# Altium integrated library Linear Technology Power Management System Supervisor, Monitor and Control.IntLib: 1611 symbols (part 24 of 100)
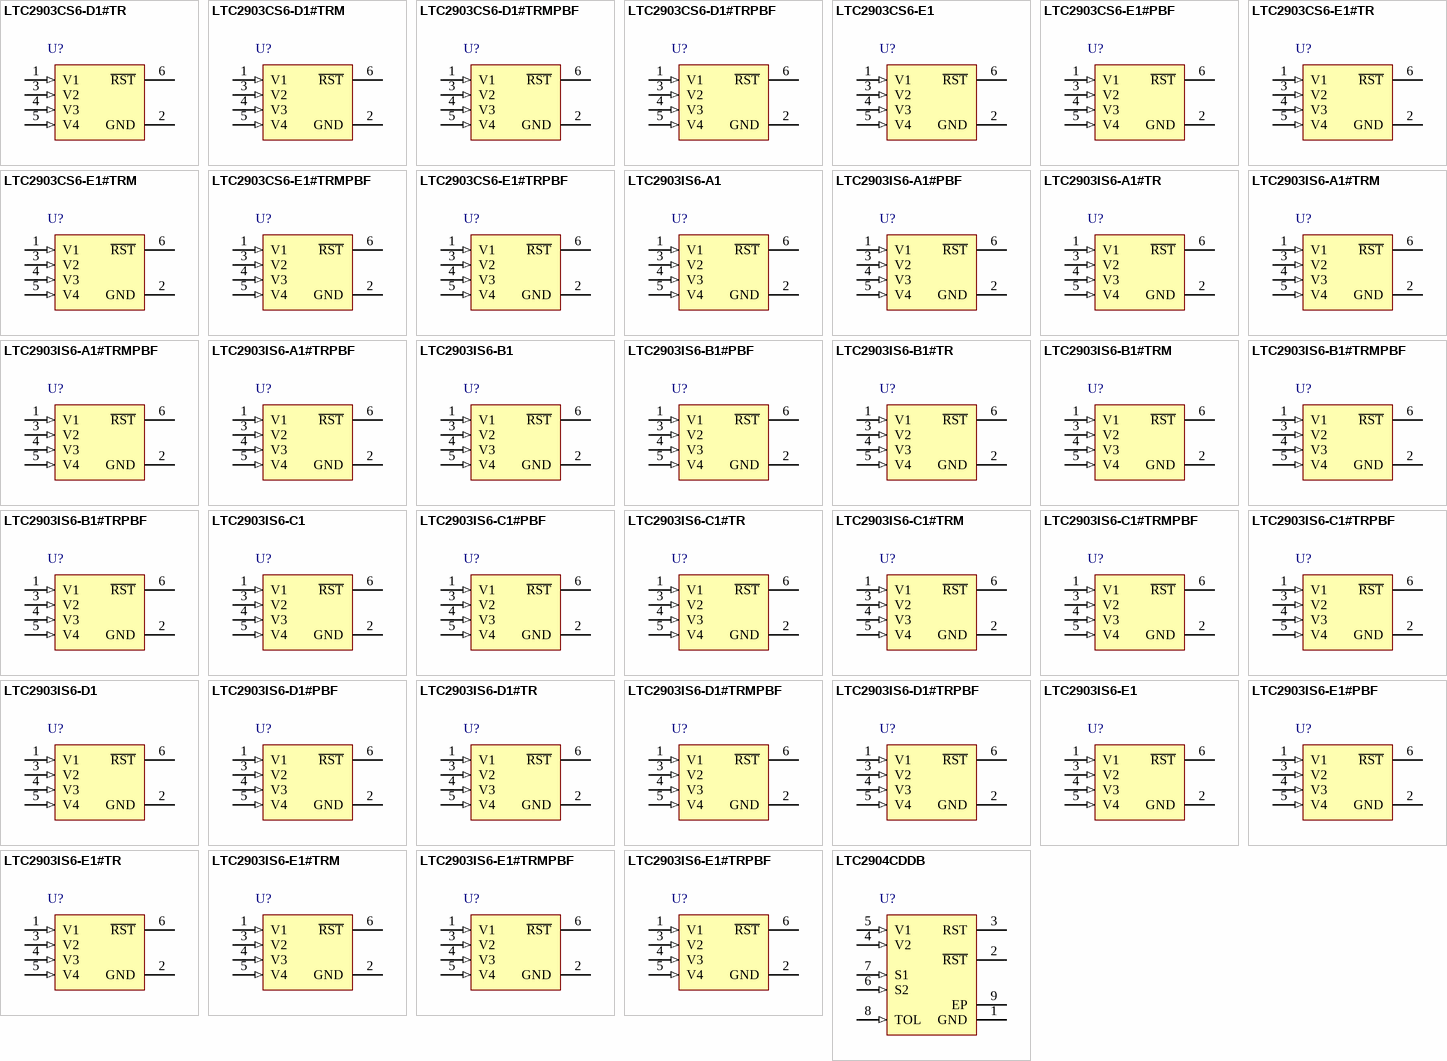
[diagram p68: symbols LTC2903CS6-D1#TR to LTC2904CDDB]

## LTC2903IS6-E1#TR
designator U?
Precision Quad Supply Monitor, 6-pin SOT23 (S6-6), -40 to 85 degC, Tape and Reel; Manufacturer: Linear Technology; PartNumber: LTC2903IS6-E1#TR; Number of Supplies(#): 4; PackageVersion: Jun-10; PackageReference: S6-6; PackageDescription: 6-Pin Plastic TSOT-23, Body 2.9 x 1.63 mm, Pitch 0.95 mm; Packing: Tape and Reel; RoHS: FALSE; Mounting Technology: Surface Mount; Code_JEDEC: MO-193; ComponentLink1Description: Manufacturer URL; ComponentLink1URL: http://www.linear.com/; ComponentLink2Description: Datasheet; ComponentLink2URL: http://cds.linear.com/docs/en/datasheet/29031fa.pdf; ComponentLink3Description: Package Specification; ComponentLink3URL: http://cds.linear.com/docs/en/packaging/SOT_6_05-08-1636.pdf
footprint LT-S6-6-TSOT-23_N (SOT23, 6-Leads, Body 2.9x1.75mm, Pitch 0.95mm, IPC Medium Density)
footprint LT-S6-6-TSOT-23_L (SOT23, 6-Leads, Body 2.9x1.75mm, Pitch 0.95mm, IPC High Density)
footprint LT-S6-6-TSOT-23_M (SOT23, 6-Leads, Body 2.9x1.75mm, Pitch 0.95mm, IPC Low Density)
pins: 1 V1 (in) "Voltage Input 1. Internal VCC is generated from the greater voltage on the V1 and V2 inputs. VCC = V1 for options D1 and E1. Bypass this pin to ground with a 0.1uF (or greater) capacitor.", 2 GND (power) "Ground.", 3 V2 (in) "Voltage Input 2. Internal VCC is generated from the greater voltage on the V1 and V2 inputs. VCC = V1 for options D1 and E1. For option A1, B1, C1 bypass this pin to ground with a 0.1uF (or greater) capacitor. V2 is an (See Datasheet)", 4 V3 (in) "Voltage Input 3. This input assists the R\S\T\ pulldown circuitry below 1V (for options A1, B1 and C1 only). V3 is an adjustable input for options D1 and E1. See Table 1b for recommended ADJ resistor values.", 5 V4 (in) "Voltage Input 4. Table 1 lists the recommended ADJ resistor values for options A1, B1 and C1. See Table 1b for options D1 and E1.", 6 ~{RST} (oc) "Reset Logic Output. Pulls low when any voltage input is below reset threshold and held low for 200ms after all voltage inputs exceed threshold. The pin contains a weak pull-up to V2 (V1 for options D1 and E1). Use an (See Datasheet)"

## LTC2903IS6-E1#TRM
designator U?
Precision Quad Supply Monitor, 6-pin SOT23 (S6-6), -40 to 85 degC, Mini Tape and Reel; Manufacturer: Linear Technology; PartNumber: LTC2903IS6-E1#TRM; Number of Supplies(#): 4; PackageVersion: Jun-10; PackageReference: S6-6; PackageDescription: 6-Pin Plastic TSOT-23, Body 2.9 x 1.63 mm, Pitch 0.95 mm; Packing: Mini Tape and Reel; RoHS: TRUE; Mounting Technology: Surface Mount; Code_JEDEC: MO-193; ComponentLink1Description: Manufacturer URL; ComponentLink1URL: http://www.linear.com/; ComponentLink2Description: Datasheet; ComponentLink2URL: http://cds.linear.com/docs/en/datasheet/29031fa.pdf; ComponentLink3Description: Package Specification; ComponentLink3URL: http://cds.linear.com/docs/en/packaging/SOT_6_05-08-1636.pdf
footprint LT-S6-6-TSOT-23_N (SOT23, 6-Leads, Body 2.9x1.75mm, Pitch 0.95mm, IPC Medium Density)
footprint LT-S6-6-TSOT-23_L (SOT23, 6-Leads, Body 2.9x1.75mm, Pitch 0.95mm, IPC High Density)
footprint LT-S6-6-TSOT-23_M (SOT23, 6-Leads, Body 2.9x1.75mm, Pitch 0.95mm, IPC Low Density)
pins: 1 V1 (in) "Voltage Input 1. Internal VCC is generated from the greater voltage on the V1 and V2 inputs. VCC = V1 for options D1 and E1. Bypass this pin to ground with a 0.1uF (or greater) capacitor.", 2 GND (power) "Ground.", 3 V2 (in) "Voltage Input 2. Internal VCC is generated from the greater voltage on the V1 and V2 inputs. VCC = V1 for options D1 and E1. For option A1, B1, C1 bypass this pin to ground with a 0.1uF (or greater) capacitor. V2 is an (See Datasheet)", 4 V3 (in) "Voltage Input 3. This input assists the R\S\T\ pulldown circuitry below 1V (for options A1, B1 and C1 only). V3 is an adjustable input for options D1 and E1. See Table 1b for recommended ADJ resistor values.", 5 V4 (in) "Voltage Input 4. Table 1 lists the recommended ADJ resistor values for options A1, B1 and C1. See Table 1b for options D1 and E1.", 6 ~{RST} (oc) "Reset Logic Output. Pulls low when any voltage input is below reset threshold and held low for 200ms after all voltage inputs exceed threshold. The pin contains a weak pull-up to V2 (V1 for options D1 and E1). Use an (See Datasheet)"

## LTC2903IS6-E1#TRMPBF
designator U?
Precision Quad Supply Monitor, 6-pin SOT23 (S6-6), -40 to 85 degC, Pb-Free, Mini Tape and Reel; Manufacturer: Linear Technology; PartNumber: LTC2903IS6-E1#TRMPBF; Number of Supplies(#): 4; PackageVersion: Jun-10; PackageReference: S6-6; PackageDescription: 6-Pin Plastic TSOT-23, Body 2.9 x 1.63 mm, Pitch 0.95 mm; Supplier 1: Digi-Key; Supplier Part Number 1: LTC2903IS6-E1#TRMPBF-ND; Packing: Mini Tape and Reel; RoHS: TRUE; Mounting Technology: Surface Mount; Code_JEDEC: MO-193; ComponentLink1Description: Manufacturer URL; ComponentLink1URL: http://www.linear.com/; ComponentLink2Description: Datasheet; ComponentLink2URL: http://cds.linear.com/docs/en/datasheet/29031fa.pdf; ComponentLink3Description: Package Specification; ComponentLink3URL: http://cds.linear.com/docs/en/packaging/SOT_6_05-08-1636.pdf
footprint LT-S6-6-TSOT-23_N (SOT23, 6-Leads, Body 2.9x1.75mm, Pitch 0.95mm, IPC Medium Density)
footprint LT-S6-6-TSOT-23_L (SOT23, 6-Leads, Body 2.9x1.75mm, Pitch 0.95mm, IPC High Density)
footprint LT-S6-6-TSOT-23_M (SOT23, 6-Leads, Body 2.9x1.75mm, Pitch 0.95mm, IPC Low Density)
pins: 1 V1 (in) "Voltage Input 1. Internal VCC is generated from the greater voltage on the V1 and V2 inputs. VCC = V1 for options D1 and E1. Bypass this pin to ground with a 0.1uF (or greater) capacitor.", 2 GND (power) "Ground.", 3 V2 (in) "Voltage Input 2. Internal VCC is generated from the greater voltage on the V1 and V2 inputs. VCC = V1 for options D1 and E1. For option A1, B1, C1 bypass this pin to ground with a 0.1uF (or greater) capacitor. V2 is an (See Datasheet)", 4 V3 (in) "Voltage Input 3. This input assists the R\S\T\ pulldown circuitry below 1V (for options A1, B1 and C1 only). V3 is an adjustable input for options D1 and E1. See Table 1b for recommended ADJ resistor values.", 5 V4 (in) "Voltage Input 4. Table 1 lists the recommended ADJ resistor values for options A1, B1 and C1. See Table 1b for options D1 and E1.", 6 ~{RST} (oc) "Reset Logic Output. Pulls low when any voltage input is below reset threshold and held low for 200ms after all voltage inputs exceed threshold. The pin contains a weak pull-up to V2 (V1 for options D1 and E1). Use an (See Datasheet)"

## LTC2903IS6-E1#TRPBF
designator U?
Precision Quad Supply Monitor, 6-pin SOT23 (S6-6), -40 to 85 degC, Pb-Free, Tape and Reel; Manufacturer: Linear Technology; PartNumber: LTC2903IS6-E1#TRPBF; Number of Supplies(#): 4; PackageVersion: Jun-10; PackageReference: S6-6; PackageDescription: 6-Pin Plastic TSOT-23, Body 2.9 x 1.63 mm, Pitch 0.95 mm; Supplier 1: Digi-Key; Supplier Part Number 1: LTC2903IS6-E1#TRPBF-ND; Packing: Tape and Reel; RoHS: TRUE; Mounting Technology: Surface Mount; Code_JEDEC: MO-193; ComponentLink1Description: Manufacturer URL; ComponentLink1URL: http://www.linear.com/; ComponentLink2Description: Datasheet; ComponentLink2URL: http://cds.linear.com/docs/en/datasheet/29031fa.pdf; ComponentLink3Description: Package Specification; ComponentLink3URL: http://cds.linear.com/docs/en/packaging/SOT_6_05-08-1636.pdf
footprint LT-S6-6-TSOT-23_N (SOT23, 6-Leads, Body 2.9x1.75mm, Pitch 0.95mm, IPC Medium Density)
footprint LT-S6-6-TSOT-23_L (SOT23, 6-Leads, Body 2.9x1.75mm, Pitch 0.95mm, IPC High Density)
footprint LT-S6-6-TSOT-23_M (SOT23, 6-Leads, Body 2.9x1.75mm, Pitch 0.95mm, IPC Low Density)
pins: 1 V1 (in) "Voltage Input 1. Internal VCC is generated from the greater voltage on the V1 and V2 inputs. VCC = V1 for options D1 and E1. Bypass this pin to ground with a 0.1uF (or greater) capacitor.", 2 GND (power) "Ground.", 3 V2 (in) "Voltage Input 2. Internal VCC is generated from the greater voltage on the V1 and V2 inputs. VCC = V1 for options D1 and E1. For option A1, B1, C1 bypass this pin to ground with a 0.1uF (or greater) capacitor. V2 is an (See Datasheet)", 4 V3 (in) "Voltage Input 3. This input assists the R\S\T\ pulldown circuitry below 1V (for options A1, B1 and C1 only). V3 is an adjustable input for options D1 and E1. See Table 1b for recommended ADJ resistor values.", 5 V4 (in) "Voltage Input 4. Table 1 lists the recommended ADJ resistor values for options A1, B1 and C1. See Table 1b for options D1 and E1.", 6 ~{RST} (oc) "Reset Logic Output. Pulls low when any voltage input is below reset threshold and held low for 200ms after all voltage inputs exceed threshold. The pin contains a weak pull-up to V2 (V1 for options D1 and E1). Use an (See Datasheet)"

## LTC2904CDDB
designator U?
Precision Dual Supply Monitor with Pin-Selectable Threshold, 8-pin SON (DDB-8), 0 to 70 degC; Manufacturer: Linear Technology; PartNumber: LTC2904CDDB; Number of Supplies(#): 2; DatasheetVersion: Rev. D; PackageVersion: Rev. B, 06/2010; PackageReference: DDB-8; PackageDescription: 8-Pin Plastic DFN, Body 3 x 2 mm, Pitch 0.5 mm; RoHS: FALSE; Mounting Technology: Surface Mount; Code_JEDEC: MO-229; ComponentLink1Description: Manufacturer URL; ComponentLink1URL: http://www.linear.com/; ComponentLink2Description: Datasheet; ComponentLink2URL: http://cds.linear.com/docs/en/datasheet/29045fd.pdf; ComponentLink3Description: Package Specification; ComponentLink3URL: http://cds.linear.com/docs/en/packaging/DFN_8_05-08-1702.pdf
footprint LT-DDB-8_V (SON, 8-Leads, Body 3x2mm, Pitch 0.5mm, Thermal Pad 2.2x0.61mm)
pins: 1 GND (power) "Ground.", 2 ~{RST} (oc) "Inverted Reset Logic Output. Pulls low when either V1 or VADJ is below the reset threshold and holds low for programmed delay time after all voltage inputs are above threshold. This pin has a weak pull up to VMAX and may be (See Datasheet)", 3 RST (oc) "(LTC2904 Only) Reset Logic Output. When all voltage inputs are above the reset threshold for at least the programmed delay time, this pin pulls low. This pin has a weak pull up to VMAX and may be pulled above VMAX using an (See Datasheet)", 4 V2 (in) "Voltage Input 2. Input for V2 monitor. Select from 3.3V, 2.5V, 1.8V, 1.5V, 1.2V or 1.0V. Refer to Table 1 for details. The greater of V1, V2 is also the internal supply voltage, VCC. Bypass this pin to ground with a 0.1uF (See Datasheet)", 5 V1 (in) "Voltage Input 1. Select from 5V, 3.3V or 2.5V. Refer to Table 1 for details. The greater of (V1, VCC) is also the internal VCC (VMAX). Bypass this pin to ground with a 0.1uF (or greater) capacitor.", 6 S2 (in) "The Second Voltage Threshold Select Three-State Input. Connect to V1, GND or leave unconnected in open state (See Table 1).", 7 S1 (in) "The Voltage Threshold Select Three- State Input. Connect to V1, GND or leave unconnected in open state to select one of three possible input threshold levels (refer to Table 1).", 8 TOL (in) "Three-State Input for Supply Tolerance Selection (5%, 7.5% or 10%). Refer to Applications Information for tolerance selection chart (Table 3).", 9 EP (power) "Ground."

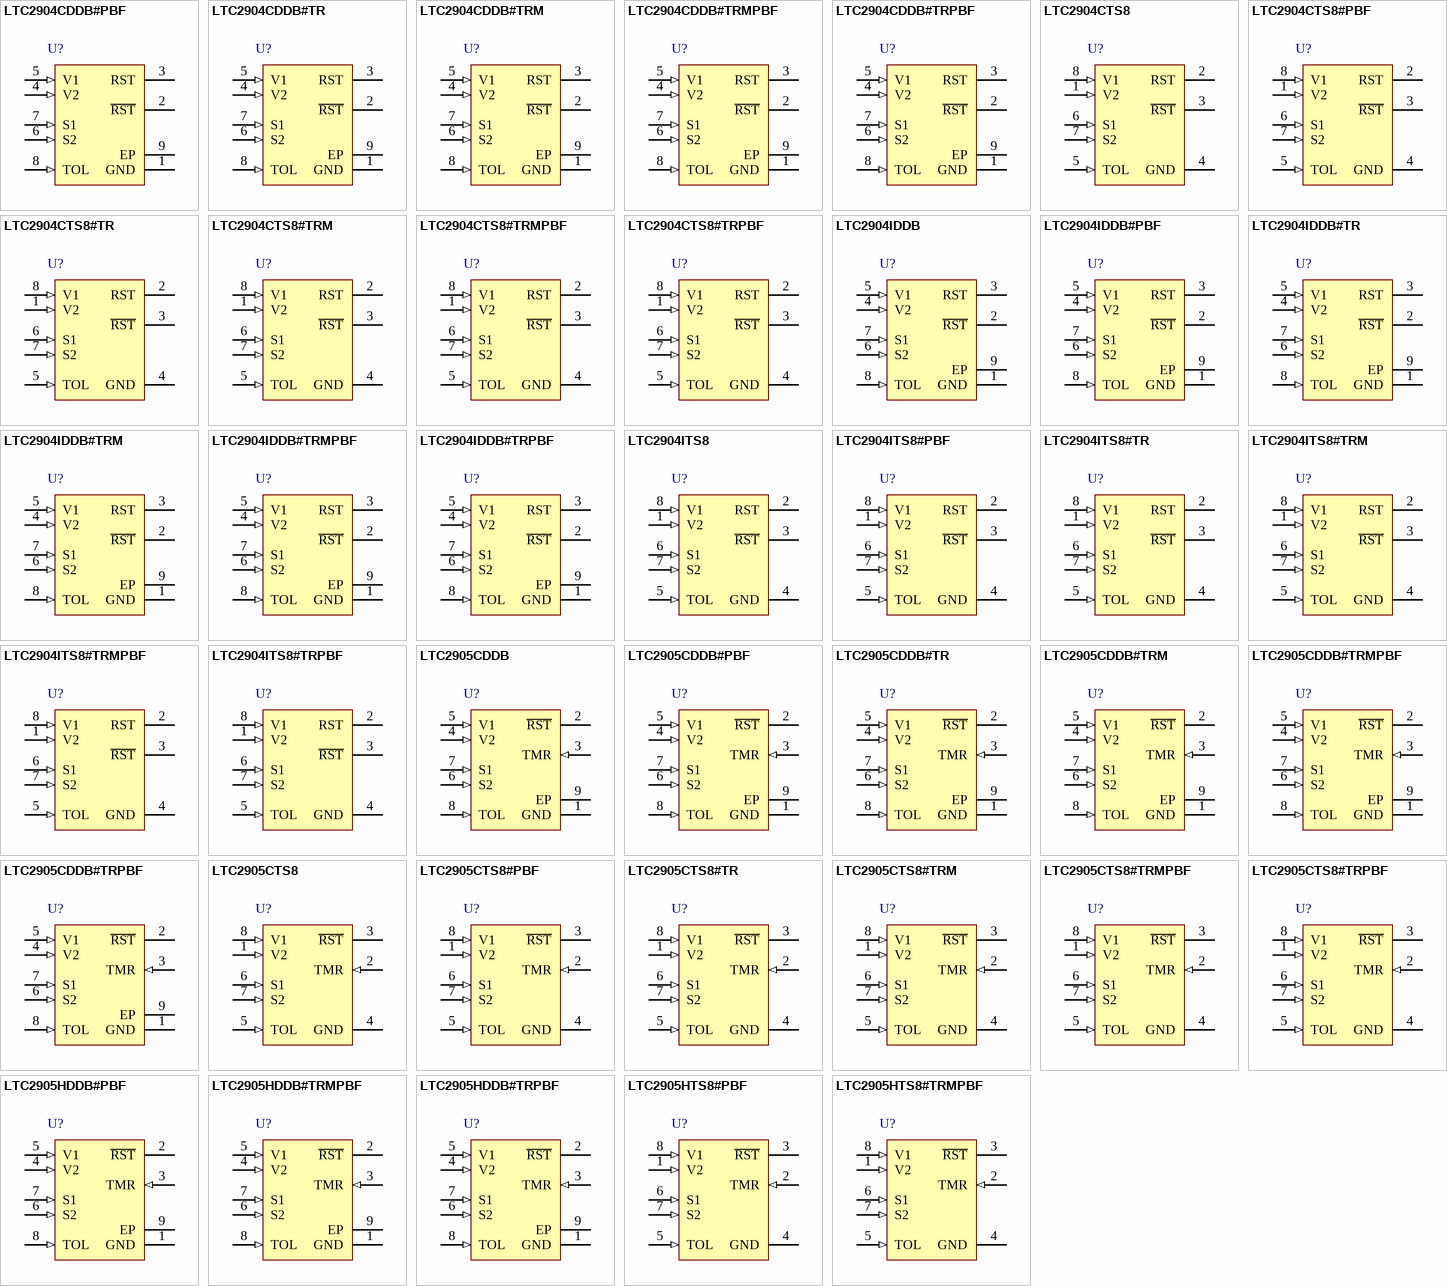
[diagram p12: symbols LTC2904CDDB#PBF to LTC2905HTS8#TRMPBF]

## LTC2904CDDB#PBF
designator U?
Precision Dual Supply Monitor with Pin-Selectable Threshold, 8-pin SON (DDB-8), 0 to 70 degC, Pb-Free; Manufacturer: Linear Technology; PartNumber: LTC2904CDDB#PBF; Number of Supplies(#): 2; DatasheetVersion: Rev. D; PackageVersion: Rev. B, 06/2010; PackageReference: DDB-8; PackageDescription: 8-Pin Plastic DFN, Body 3 x 2 mm, Pitch 0.5 mm; RoHS: TRUE; Mounting Technology: Surface Mount; Code_JEDEC: MO-229; ComponentLink1Description: Manufacturer URL; ComponentLink1URL: http://www.linear.com/; ComponentLink2Description: Datasheet; ComponentLink2URL: http://cds.linear.com/docs/en/datasheet/29045fd.pdf; ComponentLink3Description: Package Specification; ComponentLink3URL: http://cds.linear.com/docs/en/packaging/DFN_8_05-08-1702.pdf
footprint LT-DDB-8_V (SON, 8-Leads, Body 3x2mm, Pitch 0.5mm, Thermal Pad 2.2x0.61mm)
pins: 1 GND (power) "Ground.", 2 ~{RST} (oc) "Inverted Reset Logic Output. Pulls low when either V1 or VADJ is below the reset threshold and holds low for programmed delay time after all voltage inputs are above threshold. This pin has a weak pull up to VMAX and may be (See Datasheet)", 3 RST (oc) "(LTC2904 Only) Reset Logic Output. When all voltage inputs are above the reset threshold for at least the programmed delay time, this pin pulls low. This pin has a weak pull up to VMAX and may be pulled above VMAX using an (See Datasheet)", 4 V2 (in) "Voltage Input 2. Input for V2 monitor. Select from 3.3V, 2.5V, 1.8V, 1.5V, 1.2V or 1.0V. Refer to Table 1 for details. The greater of V1, V2 is also the internal supply voltage, VCC. Bypass this pin to ground with a 0.1uF (See Datasheet)", 5 V1 (in) "Voltage Input 1. Select from 5V, 3.3V or 2.5V. Refer to Table 1 for details. The greater of (V1, VCC) is also the internal VCC (VMAX). Bypass this pin to ground with a 0.1uF (or greater) capacitor.", 6 S2 (in) "The Second Voltage Threshold Select Three-State Input. Connect to V1, GND or leave unconnected in open state (See Table 1).", 7 S1 (in) "The Voltage Threshold Select Three- State Input. Connect to V1, GND or leave unconnected in open state to select one of three possible input threshold levels (refer to Table 1).", 8 TOL (in) "Three-State Input for Supply Tolerance Selection (5%, 7.5% or 10%). Refer to Applications Information for tolerance selection chart (Table 3).", 9 EP (power) "Ground."

## LTC2904CDDB#TR
designator U?
Precision Dual Supply Monitor with Pin-Selectable Threshold, 8-pin SON (DDB-8), 0 to 70 degC, Tape and Reel; Manufacturer: Linear Technology; PartNumber: LTC2904CDDB#TR; Number of Supplies(#): 2; DatasheetVersion: Rev. D; PackageVersion: Rev. B, 06/2010; PackageReference: DDB-8; PackageDescription: 8-Pin Plastic DFN, Body 3 x 2 mm, Pitch 0.5 mm; Supplier 1: Digi-Key; Supplier Part Number 1: LTC2904CDDB#TR-ND; Packing: Tape and Reel; RoHS: FALSE; Mounting Technology: Surface Mount; Code_JEDEC: MO-229; ComponentLink1Description: Manufacturer URL; ComponentLink1URL: http://www.linear.com/; ComponentLink2Description: Datasheet; ComponentLink2URL: http://cds.linear.com/docs/en/datasheet/29045fd.pdf; ComponentLink3Description: Package Specification; ComponentLink3URL: http://cds.linear.com/docs/en/packaging/DFN_8_05-08-1702.pdf
footprint LT-DDB-8_V (SON, 8-Leads, Body 3x2mm, Pitch 0.5mm, Thermal Pad 2.2x0.61mm)
pins: 1 GND (power) "Ground.", 2 ~{RST} (oc) "Inverted Reset Logic Output. Pulls low when either V1 or VADJ is below the reset threshold and holds low for programmed delay time after all voltage inputs are above threshold. This pin has a weak pull up to VMAX and may be (See Datasheet)", 3 RST (oc) "(LTC2904 Only) Reset Logic Output. When all voltage inputs are above the reset threshold for at least the programmed delay time, this pin pulls low. This pin has a weak pull up to VMAX and may be pulled above VMAX using an (See Datasheet)", 4 V2 (in) "Voltage Input 2. Input for V2 monitor. Select from 3.3V, 2.5V, 1.8V, 1.5V, 1.2V or 1.0V. Refer to Table 1 for details. The greater of V1, V2 is also the internal supply voltage, VCC. Bypass this pin to ground with a 0.1uF (See Datasheet)", 5 V1 (in) "Voltage Input 1. Select from 5V, 3.3V or 2.5V. Refer to Table 1 for details. The greater of (V1, VCC) is also the internal VCC (VMAX). Bypass this pin to ground with a 0.1uF (or greater) capacitor.", 6 S2 (in) "The Second Voltage Threshold Select Three-State Input. Connect to V1, GND or leave unconnected in open state (See Table 1).", 7 S1 (in) "The Voltage Threshold Select Three- State Input. Connect to V1, GND or leave unconnected in open state to select one of three possible input threshold levels (refer to Table 1).", 8 TOL (in) "Three-State Input for Supply Tolerance Selection (5%, 7.5% or 10%). Refer to Applications Information for tolerance selection chart (Table 3).", 9 EP (power) "Ground."

## LTC2904CDDB#TRM
designator U?
Precision Dual Supply Monitor with Pin-Selectable Threshold, 8-pin SON (DDB-8), 0 to 70 degC, Mini Tape and Reel; Manufacturer: Linear Technology; PartNumber: LTC2904CDDB#TRM; Number of Supplies(#): 2; DatasheetVersion: Rev. D; PackageVersion: Rev. B, 06/2010; PackageReference: DDB-8; PackageDescription: 8-Pin Plastic DFN, Body 3 x 2 mm, Pitch 0.5 mm; Supplier 1: Digi-Key; Supplier Part Number 1: LTC2904CDDB#TRM-ND; Packing: Mini Tape and Reel; RoHS: FALSE; Mounting Technology: Surface Mount; Code_JEDEC: MO-229; ComponentLink1Description: Manufacturer URL; ComponentLink1URL: http://www.linear.com/; ComponentLink2Description: Datasheet; ComponentLink2URL: http://cds.linear.com/docs/en/datasheet/29045fd.pdf; ComponentLink3Description: Package Specification; ComponentLink3URL: http://cds.linear.com/docs/en/packaging/DFN_8_05-08-1702.pdf
footprint LT-DDB-8_V (SON, 8-Leads, Body 3x2mm, Pitch 0.5mm, Thermal Pad 2.2x0.61mm)
pins: 1 GND (power) "Ground.", 2 ~{RST} (oc) "Inverted Reset Logic Output. Pulls low when either V1 or VADJ is below the reset threshold and holds low for programmed delay time after all voltage inputs are above threshold. This pin has a weak pull up to VMAX and may be (See Datasheet)", 3 RST (oc) "(LTC2904 Only) Reset Logic Output. When all voltage inputs are above the reset threshold for at least the programmed delay time, this pin pulls low. This pin has a weak pull up to VMAX and may be pulled above VMAX using an (See Datasheet)", 4 V2 (in) "Voltage Input 2. Input for V2 monitor. Select from 3.3V, 2.5V, 1.8V, 1.5V, 1.2V or 1.0V. Refer to Table 1 for details. The greater of V1, V2 is also the internal supply voltage, VCC. Bypass this pin to ground with a 0.1uF (See Datasheet)", 5 V1 (in) "Voltage Input 1. Select from 5V, 3.3V or 2.5V. Refer to Table 1 for details. The greater of (V1, VCC) is also the internal VCC (VMAX). Bypass this pin to ground with a 0.1uF (or greater) capacitor.", 6 S2 (in) "The Second Voltage Threshold Select Three-State Input. Connect to V1, GND or leave unconnected in open state (See Table 1).", 7 S1 (in) "The Voltage Threshold Select Three- State Input. Connect to V1, GND or leave unconnected in open state to select one of three possible input threshold levels (refer to Table 1).", 8 TOL (in) "Three-State Input for Supply Tolerance Selection (5%, 7.5% or 10%). Refer to Applications Information for tolerance selection chart (Table 3).", 9 EP (power) "Ground."

## LTC2904CDDB#TRMPBF
designator U?
Precision Dual Supply Monitor with Pin-Selectable Threshold, 8-pin SON (DDB-8), 0 to 70 degC, Pb-Free, Mini Tape and Reel; Manufacturer: Linear Technology; PartNumber: LTC2904CDDB#TRMPBF; Number of Supplies(#): 2; DatasheetVersion: Rev. D; PackageVersion: Rev. B, 06/2010; PackageReference: DDB-8; PackageDescription: 8-Pin Plastic DFN, Body 3 x 2 mm, Pitch 0.5 mm; Supplier 1: Digi-Key; Supplier Part Number 1: LTC2904CDDB#TRMPBF-ND; Packing: Mini Tape and Reel; RoHS: TRUE; Mounting Technology: Surface Mount; Code_JEDEC: MO-229; ComponentLink1Description: Manufacturer URL; ComponentLink1URL: http://www.linear.com/; ComponentLink2Description: Datasheet; ComponentLink2URL: http://cds.linear.com/docs/en/datasheet/29045fd.pdf; ComponentLink3Description: Package Specification; ComponentLink3URL: http://cds.linear.com/docs/en/packaging/DFN_8_05-08-1702.pdf
footprint LT-DDB-8_V (SON, 8-Leads, Body 3x2mm, Pitch 0.5mm, Thermal Pad 2.2x0.61mm)
pins: 1 GND (power) "Ground.", 2 ~{RST} (oc) "Inverted Reset Logic Output. Pulls low when either V1 or VADJ is below the reset threshold and holds low for programmed delay time after all voltage inputs are above threshold. This pin has a weak pull up to VMAX and may be (See Datasheet)", 3 RST (oc) "(LTC2904 Only) Reset Logic Output. When all voltage inputs are above the reset threshold for at least the programmed delay time, this pin pulls low. This pin has a weak pull up to VMAX and may be pulled above VMAX using an (See Datasheet)", 4 V2 (in) "Voltage Input 2. Input for V2 monitor. Select from 3.3V, 2.5V, 1.8V, 1.5V, 1.2V or 1.0V. Refer to Table 1 for details. The greater of V1, V2 is also the internal supply voltage, VCC. Bypass this pin to ground with a 0.1uF (See Datasheet)", 5 V1 (in) "Voltage Input 1. Select from 5V, 3.3V or 2.5V. Refer to Table 1 for details. The greater of (V1, VCC) is also the internal VCC (VMAX). Bypass this pin to ground with a 0.1uF (or greater) capacitor.", 6 S2 (in) "The Second Voltage Threshold Select Three-State Input. Connect to V1, GND or leave unconnected in open state (See Table 1).", 7 S1 (in) "The Voltage Threshold Select Three- State Input. Connect to V1, GND or leave unconnected in open state to select one of three possible input threshold levels (refer to Table 1).", 8 TOL (in) "Three-State Input for Supply Tolerance Selection (5%, 7.5% or 10%). Refer to Applications Information for tolerance selection chart (Table 3).", 9 EP (power) "Ground."

## LTC2904CDDB#TRPBF
designator U?
Precision Dual Supply Monitor with Pin-Selectable Threshold, 8-pin SON (DDB-8), 0 to 70 degC, Pb-Free, Tape and Reel; Manufacturer: Linear Technology; PartNumber: LTC2904CDDB#TRPBF; Number of Supplies(#): 2; DatasheetVersion: Rev. D; PackageVersion: Rev. B, 06/2010; PackageReference: DDB-8; PackageDescription: 8-Pin Plastic DFN, Body 3 x 2 mm, Pitch 0.5 mm; Supplier 1: Digi-Key; Supplier Part Number 1: LTC2904CDDB#TRPBF-ND; Packing: Tape and Reel; RoHS: TRUE; Mounting Technology: Surface Mount; Code_JEDEC: MO-229; ComponentLink1Description: Manufacturer URL; ComponentLink1URL: http://www.linear.com/; ComponentLink2Description: Datasheet; ComponentLink2URL: http://cds.linear.com/docs/en/datasheet/29045fd.pdf; ComponentLink3Description: Package Specification; ComponentLink3URL: http://cds.linear.com/docs/en/packaging/DFN_8_05-08-1702.pdf
footprint LT-DDB-8_V (SON, 8-Leads, Body 3x2mm, Pitch 0.5mm, Thermal Pad 2.2x0.61mm)
pins: 1 GND (power) "Ground.", 2 ~{RST} (oc) "Inverted Reset Logic Output. Pulls low when either V1 or VADJ is below the reset threshold and holds low for programmed delay time after all voltage inputs are above threshold. This pin has a weak pull up to VMAX and may be (See Datasheet)", 3 RST (oc) "(LTC2904 Only) Reset Logic Output. When all voltage inputs are above the reset threshold for at least the programmed delay time, this pin pulls low. This pin has a weak pull up to VMAX and may be pulled above VMAX using an (See Datasheet)", 4 V2 (in) "Voltage Input 2. Input for V2 monitor. Select from 3.3V, 2.5V, 1.8V, 1.5V, 1.2V or 1.0V. Refer to Table 1 for details. The greater of V1, V2 is also the internal supply voltage, VCC. Bypass this pin to ground with a 0.1uF (See Datasheet)", 5 V1 (in) "Voltage Input 1. Select from 5V, 3.3V or 2.5V. Refer to Table 1 for details. The greater of (V1, VCC) is also the internal VCC (VMAX). Bypass this pin to ground with a 0.1uF (or greater) capacitor.", 6 S2 (in) "The Second Voltage Threshold Select Three-State Input. Connect to V1, GND or leave unconnected in open state (See Table 1).", 7 S1 (in) "The Voltage Threshold Select Three- State Input. Connect to V1, GND or leave unconnected in open state to select one of three possible input threshold levels (refer to Table 1).", 8 TOL (in) "Three-State Input for Supply Tolerance Selection (5%, 7.5% or 10%). Refer to Applications Information for tolerance selection chart (Table 3).", 9 EP (power) "Ground."

## LTC2904CTS8
designator U?
Precision Dual Supply Monitor with Pin-Selectable Threshold, 8-pin SOT23 (TS8-8), 0 to 70 degC; Manufacturer: Linear Technology; PartNumber: LTC2904CTS8; Number of Supplies(#): 2; DatasheetVersion: Rev. D; PackageVersion: Rev. A, 08/2010; PackageReference: TS8-8; PackageDescription: 8-Pin Plastic TSOT-23, Body 2.9 x 1.63 mm, Pitch 0.65 mm; RoHS: FALSE; Mounting Technology: Surface Mount; Code_JEDEC: MO-193; ComponentLink1Description: Manufacturer URL; ComponentLink1URL: http://www.linear.com/; ComponentLink2Description: Datasheet; ComponentLink2URL: http://cds.linear.com/docs/en/datasheet/29045fd.pdf; ComponentLink3Description: Package Specification; ComponentLink3URL: http://cds.linear.com/docs/en/packaging/SOT_8_05-08-1637.pdf
footprint LT-TS8-8-TSOT-23_V (SOT23, 8-Leads, Body 2.9x1.75mm, Pitch 0.65mm)
pins: 1 V2 (in) "Voltage Input 2. Input for V2 monitor. Select from 3.3V, 2.5V, 1.8V, 1.5V, 1.2V or 1.0V. Refer to Table 1 for details. The greater of V1, V2 is also the internal supply voltage, VCC. Bypass this pin to ground with a 0.1uF (See Datasheet)", 2 RST (oc) "(LTC2904 Only) Reset Logic Output. When all voltage inputs are above the reset threshold for at least the programmed delay time, this pin pulls low. This pin has a weak pull up to VMAX and may be pulled above VMAX using an (See Datasheet)", 3 ~{RST} (oc) "Inverted Reset Logic Output. Pulls low when either V1 or VADJ is below the reset threshold and holds low for programmed delay time after all voltage inputs are above threshold. This pin has a weak pull up to VMAX and may be (See Datasheet)", 4 GND (power) "Ground.", 5 TOL (in) "Three-State Input for Supply Tolerance Selection (5%, 7.5% or 10%). Refer to Applications Information for tolerance selection chart (Table 3).", 6 S1 (in) "The Voltage Threshold Select Three- State Input. Connect to V1, GND or leave unconnected in open state to select one of three possible input threshold levels (refer to Table 1).", 7 S2 (in) "The Second Voltage Threshold Select Three-State Input. Connect to V1, GND or leave unconnected in open state (See Table 1).", 8 V1 (in) "Voltage Input 1. Select from 5V, 3.3V or 2.5V. Refer to Table 1 for details. The greater of (V1, VCC) is also the internal VCC (VMAX). Bypass this pin to ground with a 0.1uF (or greater) capacitor."

## LTC2904CTS8#PBF
designator U?
Precision Dual Supply Monitor with Pin-Selectable Threshold, 8-pin SOT23 (TS8-8), 0 to 70 degC, Pb-Free; Manufacturer: Linear Technology; PartNumber: LTC2904CTS8#PBF; Number of Supplies(#): 2; DatasheetVersion: Rev. D; PackageVersion: Rev. A, 08/2010; PackageReference: TS8-8; PackageDescription: 8-Pin Plastic TSOT-23, Body 2.9 x 1.63 mm, Pitch 0.65 mm; RoHS: TRUE; Mounting Technology: Surface Mount; Code_JEDEC: MO-193; ComponentLink1Description: Manufacturer URL; ComponentLink1URL: http://www.linear.com/; ComponentLink2Description: Datasheet; ComponentLink2URL: http://cds.linear.com/docs/en/datasheet/29045fd.pdf; ComponentLink3Description: Package Specification; ComponentLink3URL: http://cds.linear.com/docs/en/packaging/SOT_8_05-08-1637.pdf
footprint LT-TS8-8-TSOT-23_V (SOT23, 8-Leads, Body 2.9x1.75mm, Pitch 0.65mm)
pins: 1 V2 (in) "Voltage Input 2. Input for V2 monitor. Select from 3.3V, 2.5V, 1.8V, 1.5V, 1.2V or 1.0V. Refer to Table 1 for details. The greater of V1, V2 is also the internal supply voltage, VCC. Bypass this pin to ground with a 0.1uF (See Datasheet)", 2 RST (oc) "(LTC2904 Only) Reset Logic Output. When all voltage inputs are above the reset threshold for at least the programmed delay time, this pin pulls low. This pin has a weak pull up to VMAX and may be pulled above VMAX using an (See Datasheet)", 3 ~{RST} (oc) "Inverted Reset Logic Output. Pulls low when either V1 or VADJ is below the reset threshold and holds low for programmed delay time after all voltage inputs are above threshold. This pin has a weak pull up to VMAX and may be (See Datasheet)", 4 GND (power) "Ground.", 5 TOL (in) "Three-State Input for Supply Tolerance Selection (5%, 7.5% or 10%). Refer to Applications Information for tolerance selection chart (Table 3).", 6 S1 (in) "The Voltage Threshold Select Three- State Input. Connect to V1, GND or leave unconnected in open state to select one of three possible input threshold levels (refer to Table 1).", 7 S2 (in) "The Second Voltage Threshold Select Three-State Input. Connect to V1, GND or leave unconnected in open state (See Table 1).", 8 V1 (in) "Voltage Input 1. Select from 5V, 3.3V or 2.5V. Refer to Table 1 for details. The greater of (V1, VCC) is also the internal VCC (VMAX). Bypass this pin to ground with a 0.1uF (or greater) capacitor."

## LTC2904CTS8#TR
designator U?
Precision Dual Supply Monitor with Pin-Selectable Threshold, 8-pin SOT23 (TS8-8), 0 to 70 degC, Tape and Reel; Manufacturer: Linear Technology; PartNumber: LTC2904CTS8#TR; Number of Supplies(#): 2; DatasheetVersion: Rev. D; PackageVersion: Rev. A, 08/2010; PackageReference: TS8-8; PackageDescription: 8-Pin Plastic TSOT-23, Body 2.9 x 1.63 mm, Pitch 0.65 mm; Supplier 1: Digi-Key; Supplier Part Number 1: LTC2904CTS8#TR-ND; Packing: Tape and Reel; RoHS: FALSE; Mounting Technology: Surface Mount; Code_JEDEC: MO-193; ComponentLink1Description: Manufacturer URL; ComponentLink1URL: http://www.linear.com/; ComponentLink2Description: Datasheet; ComponentLink2URL: http://cds.linear.com/docs/en/datasheet/29045fd.pdf; ComponentLink3Description: Package Specification; ComponentLink3URL: http://cds.linear.com/docs/en/packaging/SOT_8_05-08-1637.pdf
footprint LT-TS8-8-TSOT-23_V (SOT23, 8-Leads, Body 2.9x1.75mm, Pitch 0.65mm)
pins: 1 V2 (in) "Voltage Input 2. Input for V2 monitor. Select from 3.3V, 2.5V, 1.8V, 1.5V, 1.2V or 1.0V. Refer to Table 1 for details. The greater of V1, V2 is also the internal supply voltage, VCC. Bypass this pin to ground with a 0.1uF (See Datasheet)", 2 RST (oc) "(LTC2904 Only) Reset Logic Output. When all voltage inputs are above the reset threshold for at least the programmed delay time, this pin pulls low. This pin has a weak pull up to VMAX and may be pulled above VMAX using an (See Datasheet)", 3 ~{RST} (oc) "Inverted Reset Logic Output. Pulls low when either V1 or VADJ is below the reset threshold and holds low for programmed delay time after all voltage inputs are above threshold. This pin has a weak pull up to VMAX and may be (See Datasheet)", 4 GND (power) "Ground.", 5 TOL (in) "Three-State Input for Supply Tolerance Selection (5%, 7.5% or 10%). Refer to Applications Information for tolerance selection chart (Table 3).", 6 S1 (in) "The Voltage Threshold Select Three- State Input. Connect to V1, GND or leave unconnected in open state to select one of three possible input threshold levels (refer to Table 1).", 7 S2 (in) "The Second Voltage Threshold Select Three-State Input. Connect to V1, GND or leave unconnected in open state (See Table 1).", 8 V1 (in) "Voltage Input 1. Select from 5V, 3.3V or 2.5V. Refer to Table 1 for details. The greater of (V1, VCC) is also the internal VCC (VMAX). Bypass this pin to ground with a 0.1uF (or greater) capacitor."

## LTC2904CTS8#TRM
designator U?
Precision Dual Supply Monitor with Pin-Selectable Threshold, 8-pin SOT23 (TS8-8), 0 to 70 degC, Mini Tape and Reel; Manufacturer: Linear Technology; PartNumber: LTC2904CTS8#TRM; Number of Supplies(#): 2; DatasheetVersion: Rev. D; PackageVersion: Rev. A, 08/2010; PackageReference: TS8-8; PackageDescription: 8-Pin Plastic TSOT-23, Body 2.9 x 1.63 mm, Pitch 0.65 mm; Supplier 1: Digi-Key; Supplier Part Number 1: LTC2904CTS8#TRM-ND; Packing: Mini Tape and Reel; RoHS: FALSE; Mounting Technology: Surface Mount; Code_JEDEC: MO-193; ComponentLink1Description: Manufacturer URL; ComponentLink1URL: http://www.linear.com/; ComponentLink2Description: Datasheet; ComponentLink2URL: http://cds.linear.com/docs/en/datasheet/29045fd.pdf; ComponentLink3Description: Package Specification; ComponentLink3URL: http://cds.linear.com/docs/en/packaging/SOT_8_05-08-1637.pdf
footprint LT-TS8-8-TSOT-23_V (SOT23, 8-Leads, Body 2.9x1.75mm, Pitch 0.65mm)
pins: 1 V2 (in) "Voltage Input 2. Input for V2 monitor. Select from 3.3V, 2.5V, 1.8V, 1.5V, 1.2V or 1.0V. Refer to Table 1 for details. The greater of V1, V2 is also the internal supply voltage, VCC. Bypass this pin to ground with a 0.1uF (See Datasheet)", 2 RST (oc) "(LTC2904 Only) Reset Logic Output. When all voltage inputs are above the reset threshold for at least the programmed delay time, this pin pulls low. This pin has a weak pull up to VMAX and may be pulled above VMAX using an (See Datasheet)", 3 ~{RST} (oc) "Inverted Reset Logic Output. Pulls low when either V1 or VADJ is below the reset threshold and holds low for programmed delay time after all voltage inputs are above threshold. This pin has a weak pull up to VMAX and may be (See Datasheet)", 4 GND (power) "Ground.", 5 TOL (in) "Three-State Input for Supply Tolerance Selection (5%, 7.5% or 10%). Refer to Applications Information for tolerance selection chart (Table 3).", 6 S1 (in) "The Voltage Threshold Select Three- State Input. Connect to V1, GND or leave unconnected in open state to select one of three possible input threshold levels (refer to Table 1).", 7 S2 (in) "The Second Voltage Threshold Select Three-State Input. Connect to V1, GND or leave unconnected in open state (See Table 1).", 8 V1 (in) "Voltage Input 1. Select from 5V, 3.3V or 2.5V. Refer to Table 1 for details. The greater of (V1, VCC) is also the internal VCC (VMAX). Bypass this pin to ground with a 0.1uF (or greater) capacitor."

## LTC2904CTS8#TRMPBF
designator U?
Precision Dual Supply Monitor with Pin-Selectable Threshold, 8-pin SOT23 (TS8-8), 0 to 70 degC, Pb-Free, Mini Tape and Reel; Manufacturer: Linear Technology; PartNumber: LTC2904CTS8#TRMPBF; Number of Supplies(#): 2; DatasheetVersion: Rev. D; PackageVersion: Rev. A, 08/2010; PackageReference: TS8-8; PackageDescription: 8-Pin Plastic TSOT-23, Body 2.9 x 1.63 mm, Pitch 0.65 mm; Supplier 1: Digi-Key; Supplier Part Number 1: LTC2904CTS8#TRMPBF-ND; Supplier 2: Newark; Supplier Part Number 2: 56M6665; Packing: Mini Tape and Reel; RoHS: TRUE; Mounting Technology: Surface Mount; Code_JEDEC: MO-193; ComponentLink1Description: Manufacturer URL; ComponentLink1URL: http://www.linear.com/; ComponentLink2Description: Datasheet; ComponentLink2URL: http://cds.linear.com/docs/en/datasheet/29045fd.pdf; ComponentLink3Description: Package Specification; ComponentLink3URL: http://cds.linear.com/docs/en/packaging/SOT_8_05-08-1637.pdf
footprint LT-TS8-8-TSOT-23_V (SOT23, 8-Leads, Body 2.9x1.75mm, Pitch 0.65mm)
pins: 1 V2 (in) "Voltage Input 2. Input for V2 monitor. Select from 3.3V, 2.5V, 1.8V, 1.5V, 1.2V or 1.0V. Refer to Table 1 for details. The greater of V1, V2 is also the internal supply voltage, VCC. Bypass this pin to ground with a 0.1uF (See Datasheet)", 2 RST (oc) "(LTC2904 Only) Reset Logic Output. When all voltage inputs are above the reset threshold for at least the programmed delay time, this pin pulls low. This pin has a weak pull up to VMAX and may be pulled above VMAX using an (See Datasheet)", 3 ~{RST} (oc) "Inverted Reset Logic Output. Pulls low when either V1 or VADJ is below the reset threshold and holds low for programmed delay time after all voltage inputs are above threshold. This pin has a weak pull up to VMAX and may be (See Datasheet)", 4 GND (power) "Ground.", 5 TOL (in) "Three-State Input for Supply Tolerance Selection (5%, 7.5% or 10%). Refer to Applications Information for tolerance selection chart (Table 3).", 6 S1 (in) "The Voltage Threshold Select Three- State Input. Connect to V1, GND or leave unconnected in open state to select one of three possible input threshold levels (refer to Table 1).", 7 S2 (in) "The Second Voltage Threshold Select Three-State Input. Connect to V1, GND or leave unconnected in open state (See Table 1).", 8 V1 (in) "Voltage Input 1. Select from 5V, 3.3V or 2.5V. Refer to Table 1 for details. The greater of (V1, VCC) is also the internal VCC (VMAX). Bypass this pin to ground with a 0.1uF (or greater) capacitor."

## LTC2904CTS8#TRPBF
designator U?
Precision Dual Supply Monitor with Pin-Selectable Threshold, 8-pin SOT23 (TS8-8), 0 to 70 degC, Pb-Free, Tape and Reel; Manufacturer: Linear Technology; PartNumber: LTC2904CTS8#TRPBF; Number of Supplies(#): 2; DatasheetVersion: Rev. D; PackageVersion: Rev. A, 08/2010; PackageReference: TS8-8; PackageDescription: 8-Pin Plastic TSOT-23, Body 2.9 x 1.63 mm, Pitch 0.65 mm; Supplier 1: Digi-Key; Supplier Part Number 1: LTC2904CTS8#TRPBF-ND; Packing: Tape and Reel; RoHS: TRUE; Mounting Technology: Surface Mount; Code_JEDEC: MO-193; ComponentLink1Description: Manufacturer URL; ComponentLink1URL: http://www.linear.com/; ComponentLink2Description: Datasheet; ComponentLink2URL: http://cds.linear.com/docs/en/datasheet/29045fd.pdf; ComponentLink3Description: Package Specification; ComponentLink3URL: http://cds.linear.com/docs/en/packaging/SOT_8_05-08-1637.pdf
footprint LT-TS8-8-TSOT-23_V (SOT23, 8-Leads, Body 2.9x1.75mm, Pitch 0.65mm)
pins: 1 V2 (in) "Voltage Input 2. Input for V2 monitor. Select from 3.3V, 2.5V, 1.8V, 1.5V, 1.2V or 1.0V. Refer to Table 1 for details. The greater of V1, V2 is also the internal supply voltage, VCC. Bypass this pin to ground with a 0.1uF (See Datasheet)", 2 RST (oc) "(LTC2904 Only) Reset Logic Output. When all voltage inputs are above the reset threshold for at least the programmed delay time, this pin pulls low. This pin has a weak pull up to VMAX and may be pulled above VMAX using an (See Datasheet)", 3 ~{RST} (oc) "Inverted Reset Logic Output. Pulls low when either V1 or VADJ is below the reset threshold and holds low for programmed delay time after all voltage inputs are above threshold. This pin has a weak pull up to VMAX and may be (See Datasheet)", 4 GND (power) "Ground.", 5 TOL (in) "Three-State Input for Supply Tolerance Selection (5%, 7.5% or 10%). Refer to Applications Information for tolerance selection chart (Table 3).", 6 S1 (in) "The Voltage Threshold Select Three- State Input. Connect to V1, GND or leave unconnected in open state to select one of three possible input threshold levels (refer to Table 1).", 7 S2 (in) "The Second Voltage Threshold Select Three-State Input. Connect to V1, GND or leave unconnected in open state (See Table 1).", 8 V1 (in) "Voltage Input 1. Select from 5V, 3.3V or 2.5V. Refer to Table 1 for details. The greater of (V1, VCC) is also the internal VCC (VMAX). Bypass this pin to ground with a 0.1uF (or greater) capacitor."

## LTC2904IDDB
designator U?
Precision Dual Supply Monitor with Pin-Selectable Threshold, 8-pin SON (DDB-8), -40 to 85 degC; Manufacturer: Linear Technology; PartNumber: LTC2904IDDB; Number of Supplies(#): 2; DatasheetVersion: Rev. D; PackageVersion: Rev. B, 06/2010; PackageReference: DDB-8; PackageDescription: 8-Pin Plastic DFN, Body 3 x 2 mm, Pitch 0.5 mm; RoHS: FALSE; Mounting Technology: Surface Mount; Code_JEDEC: MO-229; ComponentLink1Description: Manufacturer URL; ComponentLink1URL: http://www.linear.com/; ComponentLink2Description: Datasheet; ComponentLink2URL: http://cds.linear.com/docs/en/datasheet/29045fd.pdf; ComponentLink3Description: Package Specification; ComponentLink3URL: http://cds.linear.com/docs/en/packaging/DFN_8_05-08-1702.pdf
footprint LT-DDB-8_V (SON, 8-Leads, Body 3x2mm, Pitch 0.5mm, Thermal Pad 2.2x0.61mm)
pins: 1 GND (power) "Ground.", 2 ~{RST} (oc) "Inverted Reset Logic Output. Pulls low when either V1 or VADJ is below the reset threshold and holds low for programmed delay time after all voltage inputs are above threshold. This pin has a weak pull up to VMAX and may be (See Datasheet)", 3 RST (oc) "(LTC2904 Only) Reset Logic Output. When all voltage inputs are above the reset threshold for at least the programmed delay time, this pin pulls low. This pin has a weak pull up to VMAX and may be pulled above VMAX using an (See Datasheet)", 4 V2 (in) "Voltage Input 2. Input for V2 monitor. Select from 3.3V, 2.5V, 1.8V, 1.5V, 1.2V or 1.0V. Refer to Table 1 for details. The greater of V1, V2 is also the internal supply voltage, VCC. Bypass this pin to ground with a 0.1uF (See Datasheet)", 5 V1 (in) "Voltage Input 1. Select from 5V, 3.3V or 2.5V. Refer to Table 1 for details. The greater of (V1, VCC) is also the internal VCC (VMAX). Bypass this pin to ground with a 0.1uF (or greater) capacitor.", 6 S2 (in) "The Second Voltage Threshold Select Three-State Input. Connect to V1, GND or leave unconnected in open state (See Table 1).", 7 S1 (in) "The Voltage Threshold Select Three- State Input. Connect to V1, GND or leave unconnected in open state to select one of three possible input threshold levels (refer to Table 1).", 8 TOL (in) "Three-State Input for Supply Tolerance Selection (5%, 7.5% or 10%). Refer to Applications Information for tolerance selection chart (Table 3).", 9 EP (power) "Ground."

## LTC2904IDDB#PBF
designator U?
Precision Dual Supply Monitor with Pin-Selectable Threshold, 8-pin SON (DDB-8), -40 to 85 degC, Pb-Free; Manufacturer: Linear Technology; PartNumber: LTC2904IDDB#PBF; Number of Supplies(#): 2; DatasheetVersion: Rev. D; PackageVersion: Rev. B, 06/2010; PackageReference: DDB-8; PackageDescription: 8-Pin Plastic DFN, Body 3 x 2 mm, Pitch 0.5 mm; RoHS: TRUE; Mounting Technology: Surface Mount; Code_JEDEC: MO-229; ComponentLink1Description: Manufacturer URL; ComponentLink1URL: http://www.linear.com/; ComponentLink2Description: Datasheet; ComponentLink2URL: http://cds.linear.com/docs/en/datasheet/29045fd.pdf; ComponentLink3Description: Package Specification; ComponentLink3URL: http://cds.linear.com/docs/en/packaging/DFN_8_05-08-1702.pdf
footprint LT-DDB-8_V (SON, 8-Leads, Body 3x2mm, Pitch 0.5mm, Thermal Pad 2.2x0.61mm)
pins: 1 GND (power) "Ground.", 2 ~{RST} (oc) "Inverted Reset Logic Output. Pulls low when either V1 or VADJ is below the reset threshold and holds low for programmed delay time after all voltage inputs are above threshold. This pin has a weak pull up to VMAX and may be (See Datasheet)", 3 RST (oc) "(LTC2904 Only) Reset Logic Output. When all voltage inputs are above the reset threshold for at least the programmed delay time, this pin pulls low. This pin has a weak pull up to VMAX and may be pulled above VMAX using an (See Datasheet)", 4 V2 (in) "Voltage Input 2. Input for V2 monitor. Select from 3.3V, 2.5V, 1.8V, 1.5V, 1.2V or 1.0V. Refer to Table 1 for details. The greater of V1, V2 is also the internal supply voltage, VCC. Bypass this pin to ground with a 0.1uF (See Datasheet)", 5 V1 (in) "Voltage Input 1. Select from 5V, 3.3V or 2.5V. Refer to Table 1 for details. The greater of (V1, VCC) is also the internal VCC (VMAX). Bypass this pin to ground with a 0.1uF (or greater) capacitor.", 6 S2 (in) "The Second Voltage Threshold Select Three-State Input. Connect to V1, GND or leave unconnected in open state (See Table 1).", 7 S1 (in) "The Voltage Threshold Select Three- State Input. Connect to V1, GND or leave unconnected in open state to select one of three possible input threshold levels (refer to Table 1).", 8 TOL (in) "Three-State Input for Supply Tolerance Selection (5%, 7.5% or 10%). Refer to Applications Information for tolerance selection chart (Table 3).", 9 EP (power) "Ground."

## LTC2904IDDB#TR
designator U?
Precision Dual Supply Monitor with Pin-Selectable Threshold, 8-pin SON (DDB-8), -40 to 85 degC, Tape and Reel; Manufacturer: Linear Technology; PartNumber: LTC2904IDDB#TR; Number of Supplies(#): 2; DatasheetVersion: Rev. D; PackageVersion: Rev. B, 06/2010; PackageReference: DDB-8; PackageDescription: 8-Pin Plastic DFN, Body 3 x 2 mm, Pitch 0.5 mm; Supplier 1: Digi-Key; Supplier Part Number 1: LTC2904IDDB#TR-ND; Packing: Tape and Reel; RoHS: FALSE; Mounting Technology: Surface Mount; Code_JEDEC: MO-229; ComponentLink1Description: Manufacturer URL; ComponentLink1URL: http://www.linear.com/; ComponentLink2Description: Datasheet; ComponentLink2URL: http://cds.linear.com/docs/en/datasheet/29045fd.pdf; ComponentLink3Description: Package Specification; ComponentLink3URL: http://cds.linear.com/docs/en/packaging/DFN_8_05-08-1702.pdf
footprint LT-DDB-8_V (SON, 8-Leads, Body 3x2mm, Pitch 0.5mm, Thermal Pad 2.2x0.61mm)
pins: 1 GND (power) "Ground.", 2 ~{RST} (oc) "Inverted Reset Logic Output. Pulls low when either V1 or VADJ is below the reset threshold and holds low for programmed delay time after all voltage inputs are above threshold. This pin has a weak pull up to VMAX and may be (See Datasheet)", 3 RST (oc) "(LTC2904 Only) Reset Logic Output. When all voltage inputs are above the reset threshold for at least the programmed delay time, this pin pulls low. This pin has a weak pull up to VMAX and may be pulled above VMAX using an (See Datasheet)", 4 V2 (in) "Voltage Input 2. Input for V2 monitor. Select from 3.3V, 2.5V, 1.8V, 1.5V, 1.2V or 1.0V. Refer to Table 1 for details. The greater of V1, V2 is also the internal supply voltage, VCC. Bypass this pin to ground with a 0.1uF (See Datasheet)", 5 V1 (in) "Voltage Input 1. Select from 5V, 3.3V or 2.5V. Refer to Table 1 for details. The greater of (V1, VCC) is also the internal VCC (VMAX). Bypass this pin to ground with a 0.1uF (or greater) capacitor.", 6 S2 (in) "The Second Voltage Threshold Select Three-State Input. Connect to V1, GND or leave unconnected in open state (See Table 1).", 7 S1 (in) "The Voltage Threshold Select Three- State Input. Connect to V1, GND or leave unconnected in open state to select one of three possible input threshold levels (refer to Table 1).", 8 TOL (in) "Three-State Input for Supply Tolerance Selection (5%, 7.5% or 10%). Refer to Applications Information for tolerance selection chart (Table 3).", 9 EP (power) "Ground."

## LTC2904IDDB#TRM
designator U?
Precision Dual Supply Monitor with Pin-Selectable Threshold, 8-pin SON (DDB-8), -40 to 85 degC, Mini Tape and Reel; Manufacturer: Linear Technology; PartNumber: LTC2904IDDB#TRM; Number of Supplies(#): 2; DatasheetVersion: Rev. D; PackageVersion: Rev. B, 06/2010; PackageReference: DDB-8; PackageDescription: 8-Pin Plastic DFN, Body 3 x 2 mm, Pitch 0.5 mm; Supplier 1: Digi-Key; Supplier Part Number 1: LTC2904IDDB#TRM-ND; Packing: Mini Tape and Reel; RoHS: FALSE; Mounting Technology: Surface Mount; Code_JEDEC: MO-229; ComponentLink1Description: Manufacturer URL; ComponentLink1URL: http://www.linear.com/; ComponentLink2Description: Datasheet; ComponentLink2URL: http://cds.linear.com/docs/en/datasheet/29045fd.pdf; ComponentLink3Description: Package Specification; ComponentLink3URL: http://cds.linear.com/docs/en/packaging/DFN_8_05-08-1702.pdf
footprint LT-DDB-8_V (SON, 8-Leads, Body 3x2mm, Pitch 0.5mm, Thermal Pad 2.2x0.61mm)
pins: 1 GND (power) "Ground.", 2 ~{RST} (oc) "Inverted Reset Logic Output. Pulls low when either V1 or VADJ is below the reset threshold and holds low for programmed delay time after all voltage inputs are above threshold. This pin has a weak pull up to VMAX and may be (See Datasheet)", 3 RST (oc) "(LTC2904 Only) Reset Logic Output. When all voltage inputs are above the reset threshold for at least the programmed delay time, this pin pulls low. This pin has a weak pull up to VMAX and may be pulled above VMAX using an (See Datasheet)", 4 V2 (in) "Voltage Input 2. Input for V2 monitor. Select from 3.3V, 2.5V, 1.8V, 1.5V, 1.2V or 1.0V. Refer to Table 1 for details. The greater of V1, V2 is also the internal supply voltage, VCC. Bypass this pin to ground with a 0.1uF (See Datasheet)", 5 V1 (in) "Voltage Input 1. Select from 5V, 3.3V or 2.5V. Refer to Table 1 for details. The greater of (V1, VCC) is also the internal VCC (VMAX). Bypass this pin to ground with a 0.1uF (or greater) capacitor.", 6 S2 (in) "The Second Voltage Threshold Select Three-State Input. Connect to V1, GND or leave unconnected in open state (See Table 1).", 7 S1 (in) "The Voltage Threshold Select Three- State Input. Connect to V1, GND or leave unconnected in open state to select one of three possible input threshold levels (refer to Table 1).", 8 TOL (in) "Three-State Input for Supply Tolerance Selection (5%, 7.5% or 10%). Refer to Applications Information for tolerance selection chart (Table 3).", 9 EP (power) "Ground."